# EAGLE library part 6120XX21721_61201621721 (library WR-BHD)
WR-BHD 2.54 mm Male Characteristics Working Voltage: 250 V UL approval: E323964 UL94-V0 Applications Industrial Production lines Details see: www.we-online.com/components/products/WTB_WR_BHD_BOX_HEADER_2_54MM_MALE_PCB Updated by Ella 2026-09-16 2026 (C) Würth Elektronik
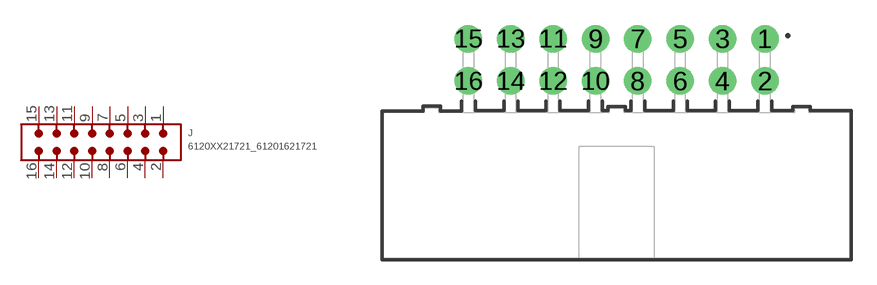
[diagram p87: symbol with the pads of 61201621721; footprint 61201621721]

Designator prefix J

## 6120XX21721_61201621721 (CATEGORY: Connectors; DATASHEET: https://www.we-online.com/redexpert/spec/61201621721?ae; GENDER: Male; LENGTH: 27.98 mm; MANUFACTURER: Würth Elektronik; MOUNT: THT; MPN: 61201621721; OPERATING_TEMPERATURE: -40 °C up to +105 °C; PACKAGING: Tray; PINS: 16; PITCH: 2.54mm; RATED_CURRENT: 3 A; SIZE: THT Angled; TYPE: Angled; VALUE: 61201621721; VERSION: Low Profile)  [61201621721]
1  1  pas
2  2  pas
3  3  pas
4  4  pas
5  5  pas
6  6  pas
7  7  pas
8  8  pas
9  9  pas
10  10  pas
11  11  pas
12  12  pas
13  13  pas
14  14  pas
15  15  pas
16  16  pas

## Footprint 61201621721 (pad centres in mm)
WR-BHD Wire-to-Board Connectors, 2.54mm, Male, THT Angled, 16pins
drill 1.1: 1 8.89,8.805; 2 8.89,6.265; 3 6.35,8.805; 4 6.35,6.265; 5 3.81,8.805; 6 3.81,6.265; 7 1.27,8.805; 8 1.27,6.265; 9 -1.27,8.805; 10 -1.27,6.265; 11 -3.81,8.805; 12 -3.81,6.265; 13 -6.35,8.805; 14 -6.35,6.265; 15 -8.89,8.805; 16 -8.89,6.265